# Altium schematic symbol library FM25V01A.Schlib: 1 symbol
Pins are listed as number, name and electrical type; pins without a type are passive.

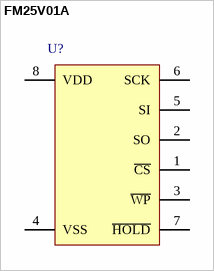
[diagram p0: symbol FM25V01A]

## FM25V01A
designator U?  (value not drawn)
128-Kbit (16K × 8) Serial (SPI) F-RAM
pins: 1 ~{CS}, 2 SO, 3 ~{WP}, 4 VSS, 5 SI, 6 SCK, 7 ~{HOLD}, 8 VDD